# EAGLE library part RCD-24B (library EW_IC_Drivers)
DC/DC-Converter Constant Current Output, Power LED Driver Source: http://www.recom-international.de/pdf/Innoline/RCD-24B.pdf
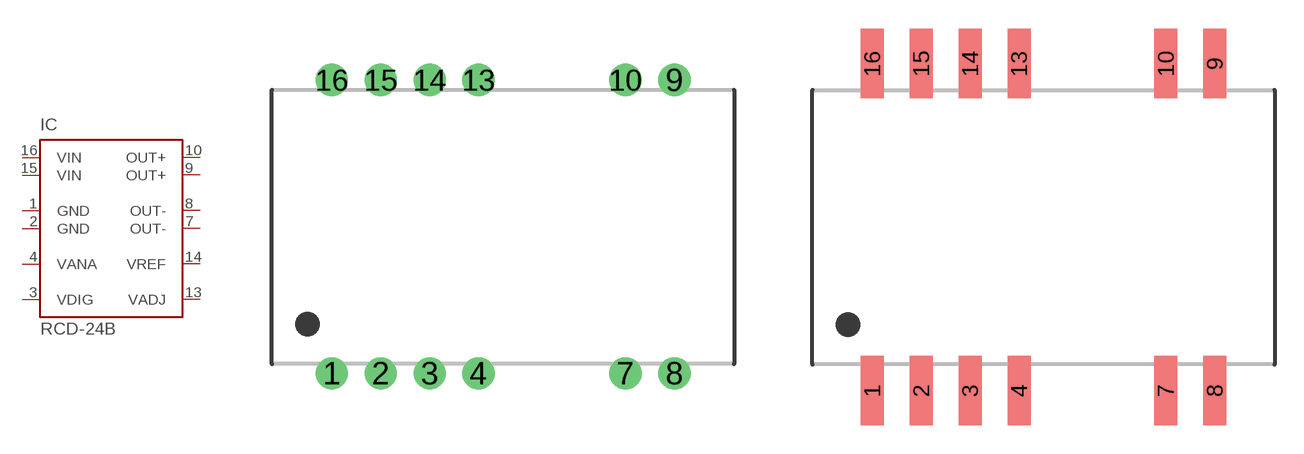
[diagram p115: symbol with the pads of RCD-24B-DIL; footprints RCD-24B-DIL, RCD-24B-SMD]

Designator prefix IC

## RCD-24B-0.70 (OC_FARNELL: unknown; OC_NEWARK: unknown)  [RCD-24B-DIL]
1  GND  pwr
2  GND  pwr
3  VDIG  pas
4  VANA  pas
7  OUT-  out
8  OUT-  out
9  OUT+  out
10  OUT+  out
13  VADJ  pas
14  VREF  in
15  VIN  in
16  VIN  in

## RCD-24B-0.70/SMD (OC_FARNELL: unknown; OC_NEWARK: unknown)  [RCD-24B-SMD]
Pads as for RCD-24B-DIL

## Footprint RCD-24B-DIL (pad centres in mm)
DC/DC Converter RCD.24 Series Through Hole Case Style Source: http://www.recom-international.de/pdf/Innoline/RCD-24B.pdf
drill 1 pad 1.676: 1 -8.89,-7.62; 2 -6.35,-7.62; 3 -3.81,-7.62; 4 -1.27,-7.62; 7 6.35,-7.62; 8 8.89,-7.62; 9 8.89,7.62; 10 6.35,7.62; 13 -1.27,7.62; 14 -3.81,7.62; 15 -6.35,7.62; 16 -8.89,7.62

## Footprint RCD-24B-SMD (pad centres in mm)
DC/DC Converter RCD.24 Series SMD Case Style Source: http://www.recom-international.de/pdf/Innoline/RCD-24B.pdf
smd 1.2 x 3.6: 1 -8.89,-8.495; 2 -6.35,-8.495; 3 -3.81,-8.495; 4 -1.27,-8.495; 7 6.35,-8.495; 8 8.89,-8.495; 9 8.89,8.495; 10 6.35,8.495; 13 -1.27,8.495; 14 -3.81,8.495; 15 -6.35,8.495; 16 -8.89,8.495